# EAGLE library part LMC555 (library omcReferences)
LMC555 - CMOS Timer Industry's Fastest Astable Frequency of 3 MHz Less Than 1 mW Typical Power Dissipation at 5 V Supply 1.5 V Supply Operating Voltage Ensured Output Fully Compatible With TTL and CMOS Logic at 5 V Supply Tested to −10 mA, 50 mA Output Current Levels Reduced Supply Current Spikes During Output Transitions Extremely Low Reset, Trigger, and Threshold Currents Excellent Temperature Stability Pin-for-Pin Compatible With 555 Series of Timers Datasheet Texas Instruments <http://www.ti.com/lit/ds/symlink/lmc555.pdf> Reichelt <https://cdn-reichelt.de/documents/datenblatt/A200/LMC555-TI.pdf>
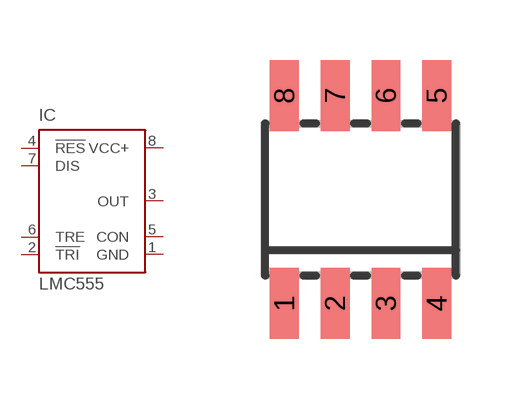
[diagram p1: symbol with the pads of SOIC08; footprint SOIC08]

Designator prefix IC

## LMC555CM (DIST#REICHELT#: LMC 555 CM; VALUE: LMC555; VENDOR#: TI, LMC555CM)  [SOIC08]
1  GND  pwr
2  !TRI  in
3  OUT  out
4  !RES  in
5  CON  in
6  TRE  in
7  DIS  in
8  VCC+  pwr

## Footprint SOIC08 (pad centres in mm)
SOIC08 SMD 5mm×6.2mm Wikipedia <https://en.wikipedia.org/wiki/Small_Outline_Integrated_Circuit>
smd 0.72 x 1.78: 1 -1.905,-2.6; 2 -0.635,-2.6; 3 0.635,-2.6; 4 1.905,-2.6; 5 1.905,2.6; 6 0.635,2.6; 7 -0.635,2.6; 8 -1.905,2.6